# Altium schematic symbol library EW-22-14-T-S-990.SchLib: 1 symbol
Pins are listed as number, name and electrical type; pins without a type are passive.

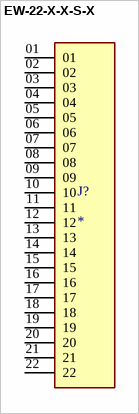
[diagram p0: symbol EW-22-X-X-S-X]

## EW-22-X-X-S-X
designator J?
MF: {'manufacturer': u'Samtec'}; MP: EW-22-X-X-S-X; Package: None; Price: None; Value: *; Availability: Unavailable
footprint SAMTEC_EW-22-X-X-S-X
pins: 01, 02, 03, 04, 05, 06, 07, 08, 09, 10, 11, 12, 13, 14, 15, 16, 17, 18, 19, 20, 21, 22